# Altium footprint library 双联电位器.PcbLib: 1 footprints
Each footprint in its own frame and in the unit in brackets; x right, y up, seen from the top. Pads: shape width x height; smd on the part's side, far side on the other; paste and mask are expansions set on the pad; w line width, h text height; cw(c..) or ccw(c..) is an arc to the next point about the centre after c.
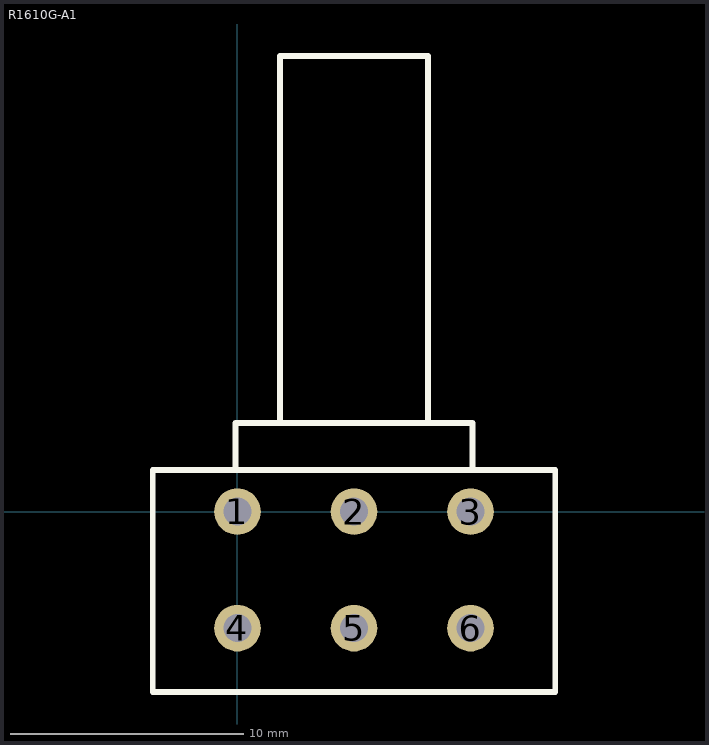
[diagram p0: the footprint, top view; thin cyan lines are the x and y axes]

## R1610G-A1 [mm] "双联电位器，脚距：5mm，柄长：15mm"
pads (6):
  round 2 hole 1.2: 1(0,0) 2(5,0) 3(10,0) 4(0,-5) 5(5,-5) 6(10,-5)
Top Overlay:
  lines w0.254: -0.08,1.778 -0.08,3.8 10.08,3.8 10.08,1.778 ; 1.825,3.81 1.825,19.558 8.175,19.558 8.175,3.81 ; -3.636,-7.747 13.636,-7.747 13.636,1.778 -3.636,1.778 -3.636,-7.747